# EAGLE library part TPS62175 (library OpenMotics)
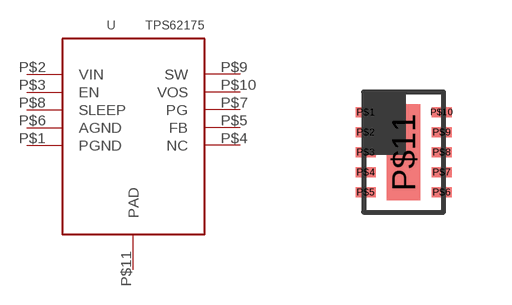
[diagram p35: symbol with the pads of QFN10; footprint QFN10]

Designator prefix U

## TPS62175  [QFN10]
P$1  PGND
P$2  VIN
P$3  EN
P$4  NC
P$5  FB
P$6  AGND
P$7  PG
P$8  SLEEP
P$9  SW
P$10  VOS
P$11  PAD

## Footprint QFN10 (pad centres in mm)
smd 0.5 x 0.25: P$1 -0.95,1; P$2 -0.95,0.5; P$3 -0.95,0; P$4 -0.95,-0.5; P$5 -0.95,-1; P$6 0.95,-1; P$7 0.95,-0.5; P$8 0.95,0; P$9 0.95,0.5; P$10 0.95,1
smd 0.84 x 2.4: P$11 0,0